# EAGLE library part TCA9406 (library bschulz)
TCA9406 - I2C Bidirectional 1MHz Logic Level Translator Characteristics: Vcc: 1.65V ~ 5.5V IOut: 25 mA IQ: 14.4μA Operating Temperature: -40°C to 85°C Internal Pullups: 10kΩ Digikey: 296-28109-1-ND (VSSOP, DCU) <https://www.digikey.com/product-detail/en/texas-instruments/TCA9406DCUR/296-28109-1-ND/2510735> 296-28108-1-ND (SM8, DCT) <https://www.digikey.com/product-detail/en/texas-instruments/TCA9406DCTR/296-28108-1-ND/2510734>
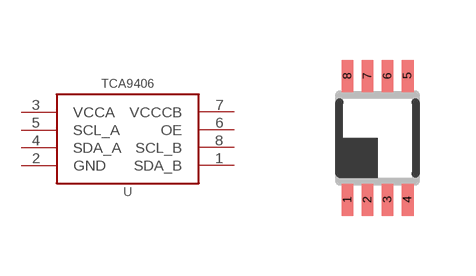
[diagram p105: symbol with the pads of DCU_(R-PDSO-G8); footprint DCU_(R-PDSO-G8)]

Designator prefix U

## TCA9406DCU (DIGIKEY: 296-28109-1-ND; MF: TI; MPN: TCA9406DCUR)  [DCU_(R-PDSO-G8)]
1  SDA_B
2  GND  pwr
3  VCCA  pwr
4  SDA_A
5  SCL_A
6  OE  in
7  VCCCB  pwr
8  SCL_B

## Footprint DCU_(R-PDSO-G8) (pad centres in mm)
DCU (R-PDSO-G8) PLASTIC SMALL OUTLINE PACKAGE (DIE DOWN) Soure: Data sheet <http://www.ti.com/lit/ds/symlink/ads7042.pdf>
smd 0.3 x 0.8: 1 -0.75,-1.55; 2 -0.25,-1.55; 3 0.25,-1.55; 4 0.75,-1.55; 5 0.75,1.55; 6 0.25,1.55; 7 -0.25,1.55; 8 -0.75,1.55